# Altium footprint library WE-XTAL.PcbLib: 22 footprints (part 2 of 2)
Each footprint in its own frame and in the unit in brackets; x right, y up, seen from the top. Pads: shape width x height; smd on the part's side, far side on the other; paste and mask are expansions set on the pad; w line width, h text height; cw(c..) or ccw(c..) is an arc to the next point about the centre after c.
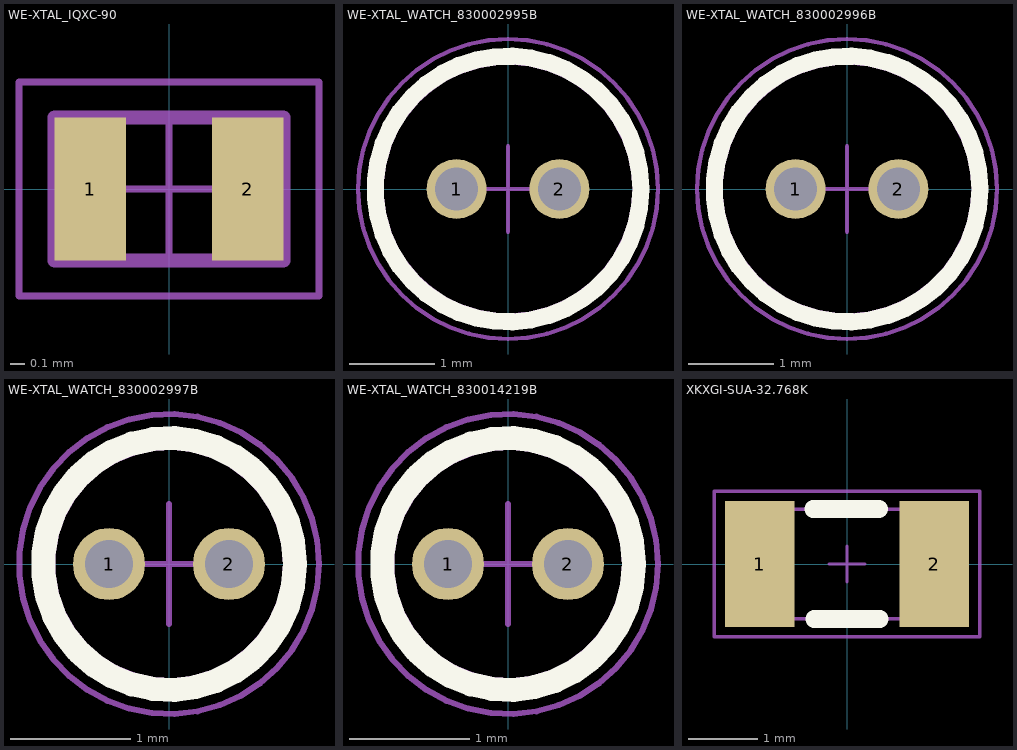
[diagram p1: the footprints below, top view; thin cyan lines are the x and y axes]

## WE-XTAL_IQXC-90 [mm] "Quartz Crystal, size IQXC-90, body 1.6x1mm"
height 0.5
pads (2):
  rect 0.5x1 smd: 1(-0.55,0) 2(0.55,0)
Top Designator:
  text ".Designator" at -5.998,-0.4 h1.2
M11 Assembly Top:
  lines w0.1: -0.8,-0.5 0.8,-0.5 0.8,0.5 -0.8,0.5 -0.8,-0.5
M13 3D Top:
  lines w0.1: -0.8,-0.5 -0.8,0.5 0.8,0.5 0.8,-0.5 -0.8,-0.5
M15 Courtyard Top:
  lines w0.05: -0.5,0 0.5,0 ; 0,-0.5 0,0.5 ; -1.05,-0.75 -1.05,0.75 1.05,0.75 1.05,-0.75 -1.05,-0.75
3D body "FrqXTAL_IQXC-90.stp": height 0.5, standoff 0, extent -0.8,-0.5 0.8,0.5

## WE-XTAL_WATCH_830002995B [mm] "Quartz Crystal, size WATCH, body diameter 3mm"
height 8.2
pads (2):
  round 0.7 hole 0.5: 1(-0.6,0) 2(0.6,0)
Top Overlay:
  circle w0.2: c0,0 r1.55
Top Designator:
  text ".Designator" at -5.998,-0.4 h1.2
M11 Assembly Top:
  circle w0.1: c0,0 r1.5
M13 3D Top:
  circle w0.1: c0,0 r1.5
M15 Courtyard Top:
  circle w0.05: c0,0 r1.75
  lines w0.05: -0.5,0 0.5,0 ; 0,-0.5 0,0.5
3D body "Frq_XTAL_WATCH-3x8.stp": height 8.25, standoff -8.95, extent -1.5,-1.5 1.5,1.5

## WE-XTAL_WATCH_830002996B [mm] "Quartz Crystal, size WATCH, body diameter 3mm"
height 8.2
pads (2):
  round 0.7 hole 0.5: 1(-0.6,0) 2(0.6,0)
Top Overlay:
  circle w0.2: c0,0 r1.55
Top Designator:
  text ".Designator" at -5.998,-0.4 h1.2
M11 Assembly Top:
  circle w0.1: c0,0 r1.5
M13 3D Top:
  circle w0.1: c0,0 r1.5
M15 Courtyard Top:
  circle w0.05: c0,0 r1.75
  lines w0.05: -0.5,0 0.5,0 ; 0,-0.5 0,0.5
3D body "Frq_XTAL_WATCH-3x8.stp": height 8.25, standoff -8.95, extent -1.5,-1.5 1.5,1.5

## WE-XTAL_WATCH_830002997B [mm] "Quartz Crystal, size WATCH, body diameter 2mm"
height 6.2
pads (2):
  round 0.6 hole 0.4: 1(-0.5,0) 2(0.5,0)
Top Overlay:
  circle w0.2: c0,0 r1.05
Top Designator:
  text ".Designator" at -5.998,-0.4 h1.2
M11 Assembly Top:
  circle w0.1: c0,0 r1
M13 3D Top:
  circle w0.1: c0,0 r1
M15 Courtyard Top:
  circle w0.05: c0,0 r1.25
  lines w0.05: -0.5,0 0.5,0 ; 0,-0.5 0,0.5
3D body "Frq_XTAL_WATCH-2x6.stp": height 6.2, standoff -5, extent -1,-1 1,1

## WE-XTAL_WATCH_830014219B [mm] "Quartz Crystal, size WATCH, body diameter 2mm"
height 6.2
pads (2):
  round 0.6 hole 0.4: 1(-0.5,0) 2(0.5,0)
Top Overlay:
  circle w0.2: c0,0 r1.05
Top Designator:
  text ".Designator" at -5.078,-0.339 h1.02
M11 Assembly Top:
  circle w0.1: c0,0 r1
M13 3D Top:
  circle w0.1: c0,0 r1
M15 Courtyard Top:
  circle w0.05: c0,0 r1.25
  lines w0.05: -0.5,0 0.5,0 ; 0,-0.5 0,0.5
3D body "Frq_XTAL_WATCH-2x6.stp": height 6.2, standoff -5, extent -1,-1 1,1

## XKXGI-SUA-32.768K [mm]
pads (2):
  rect 1x1.8 smd: 1(-1.25,0) 2(1.25,0)
Top Overlay:
  lines w0.254: -0.483,0.787 0.457,0.787 ; -0.47,-0.787 0.47,-0.787
Top Designator:
  text ".Designator" at -5.998,-0.4 h1.2
M13 3D Top:
  lines w0.05: -1.651,-0.787 -1.651,0.787 1.626,0.787 1.626,-0.787 -1.651,-0.787
M15 Courtyard Top:
  lines w0.05: -0.254,0 0.254,0 ; 0,-0.254 0,0.254 ; -1.905,-1.041 1.905,-1.041 1.905,1.041 -1.905,1.041 -1.905,-1.041
3D body "NX3215SA-32.768K-STD-MUA-14--3DModel-STEP-1.STEP": height 0.9, standoff 0, extent -1.6,-0.75 1.6,0.75